# Altium integrated library TEA_1-0505HI.IntLib: 1 symbol
Pins are listed as number, name and electrical type; pins without a type are passive.

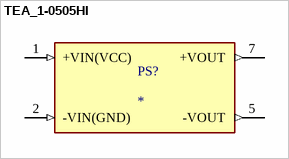
[diagram p0: symbol TEA_1-0505HI]

## TEA_1-0505HI
designator PS?
1 Watt DC/DC converter, industrial, Â±10% input, unregulated, 4000 VDC isolation, highly cost efficient, encapsulated, SIP-7; MF: Traco Power; MP: TEA 1-0505HI; SnapEDA_Link: https://www.snapeda.com/parts/TEA%201-0505HI/Traco+Power/view-part/?ref=snap; Package: SIP-7 Traco Power; Value: *; Check_prices: https://www.snapeda.com/parts/TEA%201-0505HI/Traco+Power/view-part/?ref=eda
footprint CONV_TEA_1-0505HI
pins: 1 +VIN(VCC) (in), 2 -VIN(GND) (in), 5 -VOUT (out), 7 +VOUT (out)